# EAGLE library part DSUB9 (library con-te-dsub)
3-1634222-2
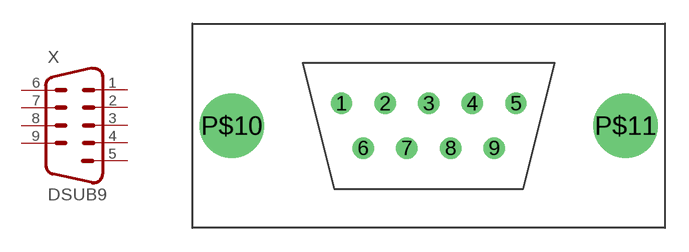
[diagram p0: symbol with the pads of DSUB9; footprint DSUB9]

Designator prefix X

## DSUB9  [DSUB9]
1  1  pas
2  2  pas
3  3  pas
4  4  pas
5  5  pas
6  6  pas
7  7  pas
8  8  pas
9  9  pas

## Footprint DSUB9 (pad centres in mm)
drill 0.85: 1 -5.54,1.42; 2 -2.77,1.42; 3 0,1.42; 4 2.77,1.42; 5 5.54,1.42; 6 -4.155,-1.42; 7 -1.385,-1.42; 8 1.385,-1.42; 9 4.155,-1.42
drill 3.1: P$10 -12.5,0; P$11 12.5,0